# EAGLE library part HD44780-8BIT (library pinconn)
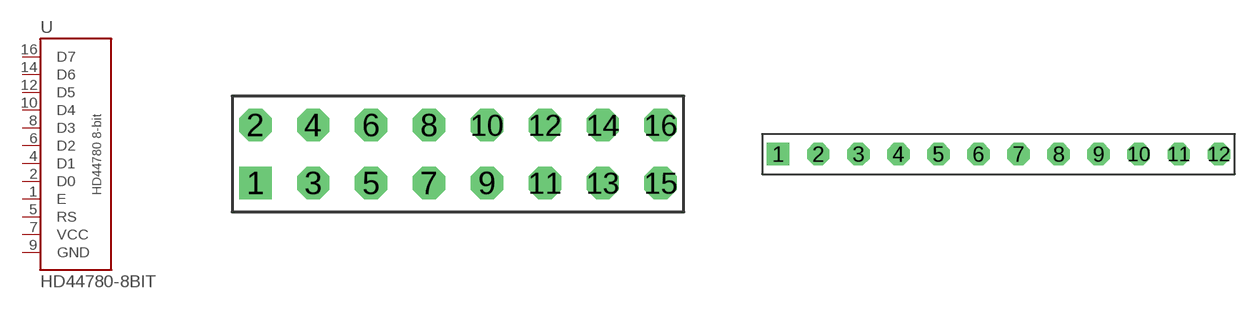
[diagram p8: symbol with the pads of CONN-2X8P; footprints CONN-2X8P, CONN-12P]

Designator prefix -

## HD44780-8BIT-2X8  [CONN-2X8P]
1  E  pas
2  D0  pas
4  D1  pas
5  RS  pas
6  D2  pas
7  VCC  pas
8  D3  pas
9  GND  pas
10  D4  pas
12  D5  pas
14  D6  pas
16  D7  pas

## HD44780-8BIT-12P  [CONN-12P]
1  GND  pas
2  VCC  pas
3  RS  pas
4  E  pas
5  D0  pas
6  D1  pas
7  D2  pas
8  D3  pas
9  D4  pas
10  D5  pas
11  D6  pas
12  D7  pas

## Footprint CONN-2X8P (pad centres in mm)
drill 0.9 pad 1.422 square: 1 -10.16,0
drill 0.9 pad 1.422 octagon: 2 -10.16,2.54; 3 -7.62,0; 4 -7.62,2.54; 5 -5.08,0; 6 -5.08,2.54; 7 -2.54,0; 8 -2.54,2.54; 9 0,0; 10 0,2.54; 11 2.54,0; 12 2.54,2.54; 13 5.08,0; 14 5.08,2.54; 15 7.62,0; 16 7.62,2.54

## Footprint CONN-12P (pad centres in mm)
drill 0.9 pad 1.422 square: 1 -15.24,0
drill 0.9 pad 1.422 octagon: 2 -12.7,0; 3 -10.16,0; 4 -7.62,0; 5 -5.08,0; 6 -2.54,0; 7 0,0; 8 2.54,0; 9 5.08,0; 10 7.62,0; 11 10.16,0; 12 12.7,0